# EAGLE library part PIC18F26K22_28 (library jasons_stuff)
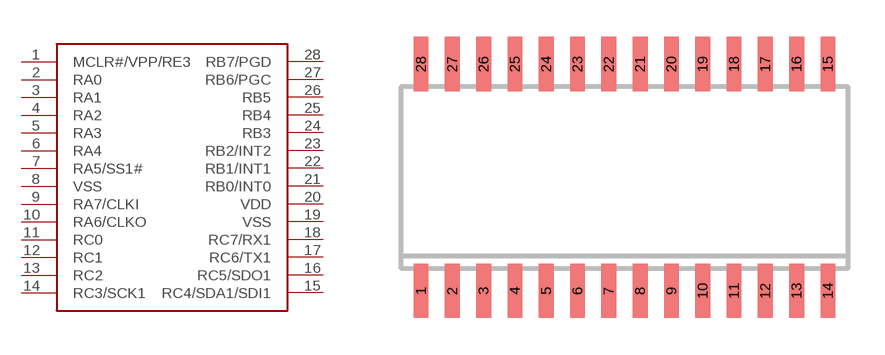
[diagram p31: symbol with the pads of SO28W; footprint SO28W]

Designator prefix -

## PIC18F26K22_28  [SO28W]
1  MCLR#/VPP/RE3
2  RA0
3  RA1
4  RA2
5  RA3
6  RA4
7  RA5/SS1#
8  VSS
9  RA7/CLKI
10  RA6/CLKO
11  RC0
12  RC1
13  RC2
14  RC3/SCK1
15  RC4/SDA1/SDI1
16  RC5/SDO1
17  RC6/TX1
18  RC7/RX1
19  VSS
20  VDD
21  RB0/INT0
22  RB1/INT1
23  RB2/INT2
24  RB3
25  RB4
26  RB5
27  RB6/PGC
28  RB7/PGD

## Footprint SO28W (pad centres in mm)
SMALL OUTLINE INTEGRATED CIRCUIT wide body 7.5 mm/JEDEC MO-119AB
smd 0.6 x 2.2: 1 -8.255,-4.6; 2 -6.985,-4.6; 3 -5.715,-4.6; 4 -4.445,-4.6; 5 -3.175,-4.6; 6 -1.905,-4.6; 7 -0.635,-4.6; 8 0.635,-4.6; 9 1.905,-4.6; 10 3.175,-4.6; 11 4.445,-4.6; 12 5.715,-4.6; 13 6.985,-4.6; 14 8.255,-4.6; 15 8.255,4.6; 16 6.985,4.6; 17 5.715,4.6; 18 4.445,4.6; 19 3.175,4.6; 20 1.905,4.6; 21 0.635,4.6; 22 -0.635,4.6; 23 -1.905,4.6; 24 -3.175,4.6; 25 -4.445,4.6; 26 -5.715,4.6; 27 -6.985,4.6; 28 -8.255,4.6